# Altium schematic symbol library 14AFR033E.SchLib: 1 symbol
Pins are listed as number, name and electrical type; pins without a type are passive.

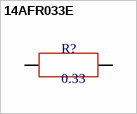
[diagram p0: symbol 14AFR033E]

## 14AFR033E
designator R?, comment 0.33
footprint 14AFR033E
pins: 1, 2